# EAGLE library part ATMEGA32U4-44-TQFP (library Eagle_CAD_parts)
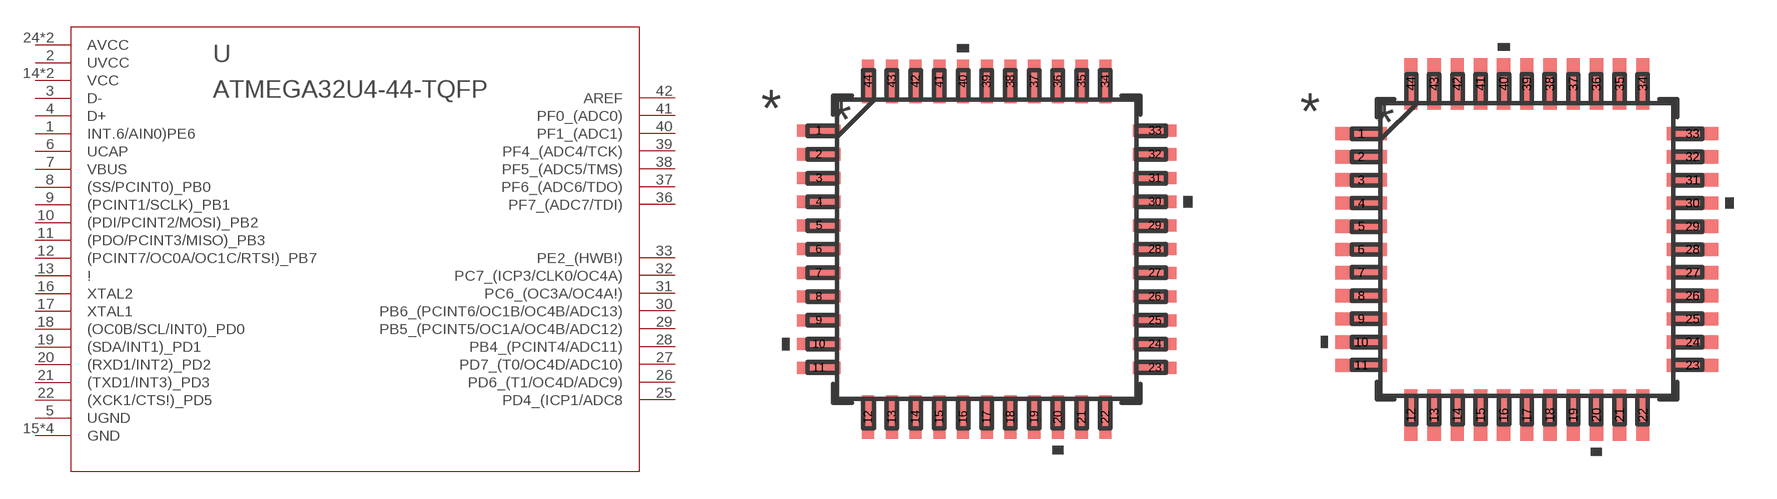
[diagram p26: symbol with the pads of 44-TQFP; footprints 44-TQFP, 44-TQFP-M]

Designator prefix U

## ATMEGA32U4-44-TQFP (MANUFACTURER_PART_NUMBER: ATMEGA32U4AUR; VENDOR: Atmel)  [44-TQFP]
1  INT.6/AIN0)PE6
2  UVCC  pwr
3  D-  pas
4  D+  pas
5  UGND  pwr
6  UCAP  pwr
7  VBUS  pwr
8  (SS/PCINT0)_PB0
9  (PCINT1/SCLK)_PB1
10  (PDI/PCINT2/MOSI)_PB2
11  (PDO/PCINT3/MISO)_PB3
12  (PCINT7/OC0A/OC1C/RTS!)_PB7
13  !  in
14  VCC  pwr
15  GND  pwr
16  XTAL2  out
17  XTAL1  in
18  (OC0B/SCL/INT0)_PD0
19  (SDA/INT1)_PD1
20  (RXD1/INT2)_PD2
21  (TXD1/INT3)_PD3
22  (XCK1/CTS!)_PD5
23  GND  pwr
24  AVCC  pwr
25  PD4_(ICP1/ADC8
26  PD6_(T1/OC4D/ADC9)
27  PD7_(T0/OC4D/ADC10)
28  PB4_(PCINT4/ADC11)
29  PB5_(PCINT5/OC1A/OC4B/ADC12)
30  PB6_(PCINT6/OC1B/OC4B/ADC13)
31  PC6_(OC3A/OC4A!)
32  PC7_(ICP3/CLK0/OC4A)
33  PE2_(HWB!)
34  VCC  pwr
35  GND  pwr
36  PF7_(ADC7/TDI)
37  PF6_(ADC6/TDO)
38  PF5_(ADC5/TMS)
39  PF4_(ADC4/TCK)
40  PF1_(ADC1)
41  PF0_(ADC0)
42  AREF  pas
43  GND  pwr
44  AVCC  pwr

## ATMEGA32U4-44-TQFP44ML-M (MANUFACTURER_PART_NUMBER: ATMEGA32U4AUR; VENDOR: Atmel)  [44-TQFP-M]
Pads as for 44-TQFP

## ATMEGA32U4-44-TQFP44ML-L (MANUFACTURER_PART_NUMBER: ATMEGA32U4AUR; VENDOR: Atmel)  [44-TQFP-L]
Pads as for 44-TQFP

## Footprint 44-TQFP (pad centres in mm)
smd 1.473 x 0.406: 1 -5.664,4; 2 -5.664,3.2; 3 -5.664,2.4; 4 -5.664,1.6; 5 -5.664,0.8; 6 -5.664,0; 7 -5.664,-0.8; 8 -5.664,-1.6; 9 -5.664,-2.4; 10 -5.664,-3.2; 11 -5.664,-4; 23 5.664,-4; 24 5.664,-3.2; 25 5.664,-2.4; 26 5.664,-1.6; 27 5.664,-0.8; 28 5.664,0; 29 5.664,0.8; 30 5.664,1.6; 31 5.664,2.4; 32 5.664,3.2; 33 5.664,4
smd 0.406 x 1.473: 12 -4,-5.664; 13 -3.2,-5.664; 14 -2.4,-5.664; 15 -1.6,-5.664; 16 -0.8,-5.664; 17 0,-5.664; 18 0.8,-5.664; 19 1.6,-5.664; 20 2.4,-5.664; 21 3.2,-5.664; 22 4,-5.664; 34 4,5.664; 35 3.2,5.664; 36 2.4,5.664; 37 1.6,5.664; 38 0.8,5.664; 39 0,5.664; 40 -0.8,5.664; 41 -1.6,5.664; 42 -2.4,5.664; 43 -3.2,5.664; 44 -4,5.664

## Footprint 44-TQFP-M (pad centres in mm)
smd 1.778 x 0.457: 1 -5.715,4; 2 -5.715,3.2; 3 -5.715,2.4; 4 -5.715,1.6; 5 -5.715,0.8; 6 -5.715,0; 7 -5.715,-0.8; 8 -5.715,-1.6; 9 -5.715,-2.4; 10 -5.715,-3.2; 11 -5.715,-4; 23 5.715,-4; 24 5.715,-3.2; 25 5.715,-2.4; 26 5.715,-1.6; 27 5.715,-0.8; 28 5.715,0; 29 5.715,0.8; 30 5.715,1.6; 31 5.715,2.4; 32 5.715,3.2; 33 5.715,4
smd 0.457 x 1.778: 12 -4,-5.715; 13 -3.2,-5.715; 14 -2.4,-5.715; 15 -1.6,-5.715; 16 -0.8,-5.715; 17 0,-5.715; 18 0.8,-5.715; 19 1.6,-5.715; 20 2.4,-5.715; 21 3.2,-5.715; 22 4,-5.715; 34 4,5.715; 35 3.2,5.715; 36 2.4,5.715; 37 1.6,5.715; 38 0.8,5.715; 39 0,5.715; 40 -0.8,5.715; 41 -1.6,5.715; 42 -2.4,5.715; 43 -3.2,5.715; 44 -4,5.715

## Footprint 44-TQFP-L (pad centres in mm)
smd 1.168 x 0.356: 1 -5.613,4; 2 -5.613,3.2; 3 -5.613,2.4; 4 -5.613,1.6; 5 -5.613,0.8; 6 -5.613,0; 7 -5.613,-0.8; 8 -5.613,-1.6; 9 -5.613,-2.4; 10 -5.613,-3.2; 11 -5.613,-4; 23 5.613,-4; 24 5.613,-3.2; 25 5.613,-2.4; 26 5.613,-1.6; 27 5.613,-0.8; 28 5.613,0; 29 5.613,0.8; 30 5.613,1.6; 31 5.613,2.4; 32 5.613,3.2; 33 5.613,4
smd 0.356 x 1.168: 12 -4,-5.613; 13 -3.2,-5.613; 14 -2.4,-5.613; 15 -1.6,-5.613; 16 -0.8,-5.613; 17 0,-5.613; 18 0.8,-5.613; 19 1.6,-5.613; 20 2.4,-5.613; 21 3.2,-5.613; 22 4,-5.613; 34 4,5.613; 35 3.2,5.613; 36 2.4,5.613; 37 1.6,5.613; 38 0.8,5.613; 39 0,5.613; 40 -0.8,5.613; 41 -1.6,5.613; 42 -2.4,5.613; 43 -3.2,5.613; 44 -4,5.613